# Altium schematic symbol library Microchip_Atmel_ATMEGA64M1_AU.SchLib: 1 symbol
Pins are listed as number, name and electrical type; pins without a type are passive.

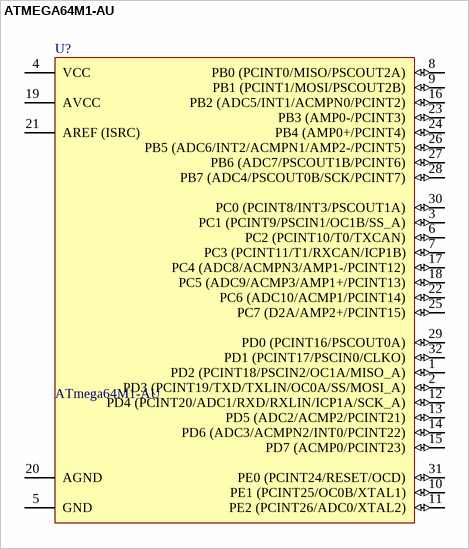
[diagram p0: symbol ATMEGA64M1-AU]

## ATMEGA64M1-AU
designator U?, comment ATmega64M1-AU
8-bit AVR Microcontroller, 64KB Flash, 2KB EEPROM, 4KB SRAM, Industrial Grade (-40° to +85°C), 32-Pin TQFP; Code_JEDEC: MS-026-ABA; PackageVersion: revB, Oct-2001; DatasheetVersion: revB, Oct-2009; PackageDescription: 32-Lead, 7x7x1.0 mm Body, 0.8mm Lead Pitch, Thin Profile Plastic Quad Flat Package (TQFP); PackageReference: 32A; PartNumber: ATMEGA64M1-AU
footprint 32A_M
footprint 32A_L
footprint 32A_N
pins: 1 PD2 (PCINT18/PSCIN2/OC1A/MISO_A) (io), 2 PD3 (PCINT19/TXD/TXLIN/OC0A/SS/MOSI_A) (io), 3 PC1 (PCINT9/PSCIN1/OC1B/SS_A) (io), 4 VCC (power), 5 GND (power), 6 PC2 (PCINT10/T0/TXCAN) (io), 7 PC3 (PCINT11/T1/RXCAN/ICP1B) (io), 8 PB0 (PCINT0/MISO/PSCOUT2A) (io), 9 PB1 (PCINT1/MOSI/PSCOUT2B) (io), 10 PE1 (PCINT25/OC0B/XTAL1) (io), 11 PE2 (PCINT26/ADC0/XTAL2) (io), 12 PD4 (PCINT20/ADC1/RXD/RXLIN/ICP1A/SCK_A) (io), 13 PD5 (ADC2/ACMP2/PCINT21) (io), 14 PD6 (ADC3/ACMPN2/INT0/PCINT22) (io), 15 PD7 (ACMP0/PCINT23) (io), 16 PB2 (ADC5/INT1/ACMPN0/PCINT2) (io), 17 PC4 (ADC8/ACMPN3/AMP1-/PCINT12) (io), 18 PC5 (ADC9/ACMP3/AMP1+/PCINT13) (io), 19 AVCC (power), 20 AGND (power), 21 AREF (ISRC) (power), 22 PC6 (ADC10/ACMP1/PCINT14) (io), 23 PB3 (AMP0-/PCINT3) (io), 24 PB4 (AMP0+/PCINT4) (io), 25 PC7 (D2A/AMP2+/PCINT15) (io), 26 PB5 (ADC6/INT2/ACMPN1/AMP2-/PCINT5) (io), 27 PB6 (ADC7/PSCOUT1B/PCINT6) (io), 28 PB7 (ADC4/PSCOUT0B/SCK/PCINT7) (io), 29 PD0 (PCINT16/PSCOUT0A) (io), 30 PC0 (PCINT8/INT3/PSCOUT1A) (io), 31 PE0 (PCINT24/RESET/OCD) (io), 32 PD1 (PCINT17/PSCIN0/CLKO) (io)